# Altium schematic symbol library Schlib1.SchLib: 4 symbols
Pins are listed as number, name and electrical type; pins without a type are passive.

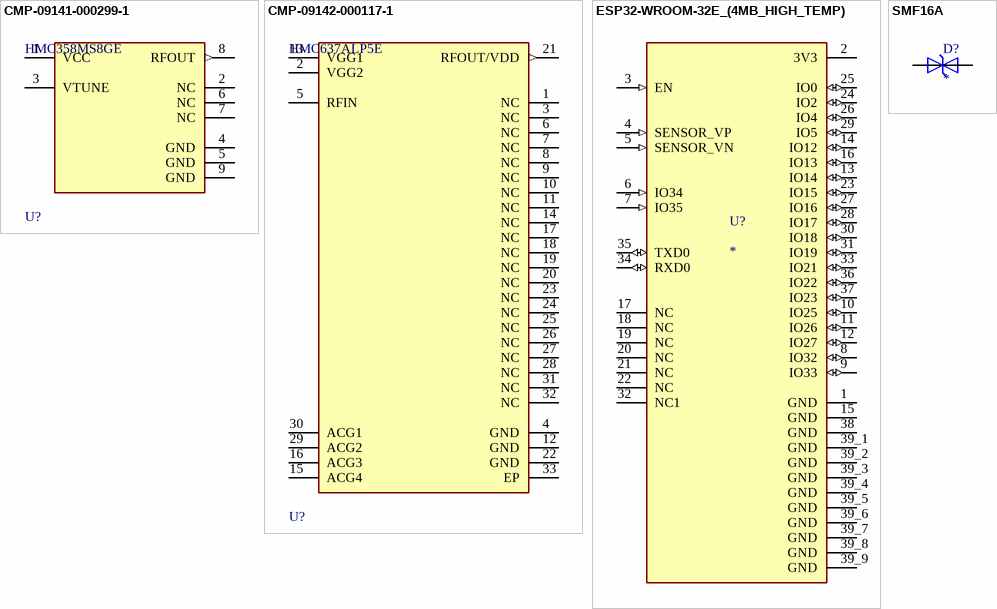
[diagram p0: symbols CMP-09141-000299-1 to SMF16A]

## CMP-09141-000299-1
designator U?, comment HMC358MS8GE
IC MMIC AMP VCO BUFFER 8-MSOP; Frequency: 6.8GHz; Max Supply Voltage: 3.25V; Operating Supply Voltage: 3V; Min Supply Voltage: 2.75V; Series: -; Packaging: Cut Strip; Package Quantity: 50; Max Operating Temperature: 85°C; Termination: SMD/SMT; Number of Pins: 8; Lead Free: Contains Lead; Case/Package: MSOP; Min Operating Temperature: -40°C; Logic Function: Buffer; RoHS Compliant: Yes; Reach SVHC Compliant: Yes
footprint FP-MS8GE-MFG
pins: 1 VCC (power), 2 NC, 3 VTUNE, 4 GND (power), 5 GND (power), 6 NC, 7 NC, 8 RFOUT (out), 9 GND (power)

## CMP-09142-000117-1
designator U?, comment HMC637ALP5E
IC MMIC MESFET GAAS 1W 32-QFN; Max Supply Voltage: 14V; Gain: 13dB; Number of Channels: 1; Noise Figure: 5dB; P1dB: 29dBm; Max Power Dissipation: 8.6W; Operating Supply Voltage: 12V; Operating Supply Current: 400mA; Case/Package: QFN; Mount: Surface Mount; Packaging: Tray; Weight: 0.006653oz; Contact Plating: Tin; Min Operating Temperature: -40°C; RoHS Compliant: No; Max Operating Temperature: 85°C; Package Quantity: 50; Lead Free: Contains Lead; Number of Pins: 32
footprint FP-HCP-32-1-IPC_A
pins: 1 NC, 2 VGG2 (power), 3 NC, 4 GND (power), 5 RFIN, 6 NC, 7 NC, 8 NC, 9 NC, 10 NC, 11 NC, 12 GND (power), 13 VGG1 (power), 14 NC, 15 ACG4 (power), 16 ACG3 (power), 17 NC, 18 NC, 19 NC, 20 NC, 21 RFOUT/VDD (out), 22 GND (power), 23 NC, 24 NC, 25 NC, 26 NC, 27 NC, 28 NC, 29 ACG2 (power), 30 ACG1 (power), 31 NC, 32 NC, 33 EP (power)

## ESP32-WROOM-32E_(4MB_HIGH_TEMP)
designator U?
Bluetooth, WiFi 802.11b/g/n, Bluetooth v4.2 +EDR, Class 1, 2 and 3 Transceiver Module 2.4GHz ~ 2.5GHz Integrated, Trace Surface Mount; MF: Espressif Systems; MP: ESP32-WROOM-32E (4MB HIGH TEMP); Package: SMD-44 Espressif Systems; Check_prices: https://www.snapeda.com/parts/ESP32-WROOM-32E%20(4MB%20HIGH%20TEMP)/Espressif+Systems/view-part/?ref=eda; Value: *; Price: None; Purchase-URL: https://pricing.snapeda.com/search/part/ESP32-WROOM-32E (4MB HIGH TEMP)/?ref=eda; SnapEDA_Link: https://www.snapeda.com/parts/ESP32-WROOM-32E%20(4MB%20HIGH%20TEMP)/Espressif+Systems/view-part/?ref=snap; Availability: In Stock
footprint XCVR_ESP32-WROOM-32E_(4MB_HIGH_TEMP)
pins: 1 GND (power), 2 3V3 (power), 3 EN (in), 4 SENSOR_VP (in), 5 SENSOR_VN (in), 6 IO34 (in), 7 IO35 (in), 8 IO32 (io), 9 IO33 (io), 10 IO25 (io), 11 IO26 (io), 12 IO27 (io), 13 IO14 (io), 14 IO12 (io), 15 GND (power), 16 IO13 (io), 17 NC, 18 NC, 19 NC, 20 NC, 21 NC, 22 NC, 23 IO15 (io), 24 IO2 (io), 25 IO0 (io), 26 IO4 (io), 27 IO16 (io), 28 IO17 (io), 29 IO5 (io), 30 IO18 (io), 31 IO19 (io), 32 NC1, 33 IO21 (io), 34 RXD0 (io), 35 TXD0 (io), 36 IO22 (io), 37 IO23 (io), 38 GND (power), 39_1 GND (power), 39_2 GND (power), 39_3 GND (power), 39_4 GND (power), 39_5 GND (power), 39_6 GND (power), 39_7 GND (power), 39_8 GND (power), 39_9 GND (power)

## SMF16A
designator D?
200W, 18.8V, 5%, Unidirectional, TVS; MF: Taiwan Semiconductor; MP: SMF16A; SnapEDA_Link: https://www.snapeda.com/parts/SMF16A/taiwan/view-part/?ref=snap; Package: SOD-123W-2 Taiwan Semiconductor; Value: *; Check_prices: https://www.snapeda.com/parts/SMF16A/taiwan/view-part/?ref=eda
footprint SODFL3718X102N
pins: A, C